# EAGLE library part AD9912 (library analog-devices)
1 GSPS Direct Digital Synthesizer with 14-Bit DAC Source: http://www.analog.com/static/imported-files/data_sheets/AD9912.pdf
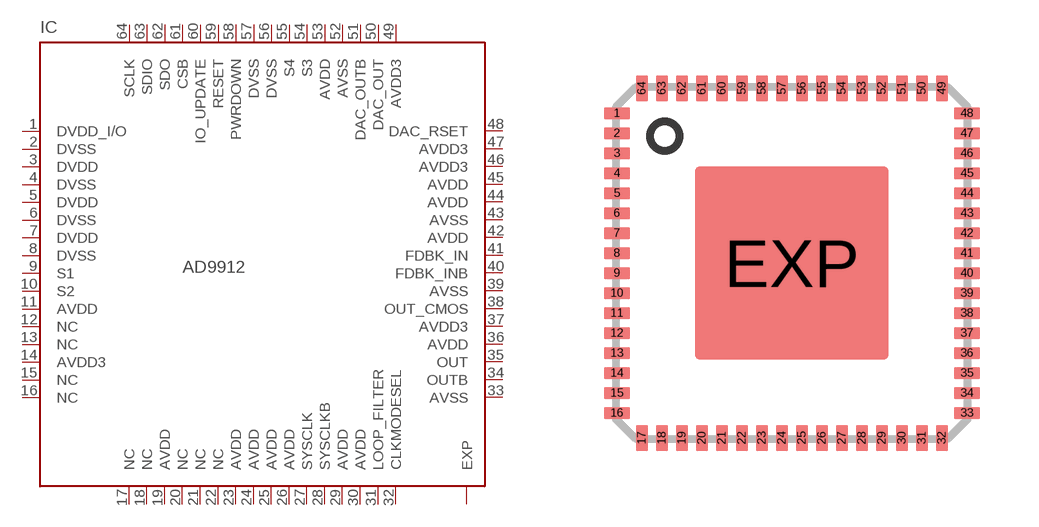
[diagram p147: symbol with the pads of LFCSP64; footprint LFCSP64]

Designator prefix IC

## AD9912 (MPN: AD9912BCPZ; OC_FARNELL: 1542712; OC_NEWARK: 61M3822)  [LFCSP64]
1  DVDD_I/O  pwr
2  DVSS  pwr
3  DVDD  pwr
4  DVSS  pwr
5  DVDD  pwr
6  DVSS  pwr
7  DVDD  pwr
8  DVSS  pwr
9  S1  in
10  S2  in
11  AVDD  pwr
12  NC  nc
13  NC  nc
14  AVDD3  pwr
15  NC  nc
16  NC  nc
17  NC  nc
18  NC  nc
19  AVDD  pwr
20  NC  nc
21  NC  nc
22  NC  nc
23  AVDD  pwr
24  AVDD  pwr
25  AVDD  pwr
26  AVDD  pwr
27  SYSCLK  in
28  SYSCLKB  in
29  AVDD  pwr
30  AVDD  pwr
31  LOOP_FILTER  in
32  CLKMODESEL  in
33  AVSS  pwr
34  OUTB  out
35  OUT  out
36  AVDD  pwr
37  AVDD3  pwr
38  OUT_CMOS  out
39  AVSS  pwr
40  FDBK_INB  in
41  FDBK_IN  in
42  AVDD  pwr
43  AVSS  pwr
44  AVDD  pwr
45  AVDD  pwr
46  AVDD3  pwr
47  AVDD3  pwr
48  DAC_RSET  in
49  AVDD3  pwr
50  DAC_OUT  out
51  DAC_OUTB  out
52  AVSS  pwr
53  AVDD  pwr
54  S3  in
55  S4  in
56  DVSS  pwr
57  DVSS  pwr
58  PWRDOWN  in
59  RESET  in
60  IO_UPDATE  in
61  CSB  in
62  SDO  in
63  SDIO  in
64  SCLK  in
EXP  EXP  pas

## Footprint LFCSP64 (pad centres in mm)
64-Lead Lead Frame Chip Scale Package [LFCSP] CP-64-1 9 x 9 mm Body Source: http://www.analog.com/UploadedFiles/Packages/40887351787287CP_64_1.pdf
smd 0.65 x 0.3: 1 -4.375,3.75; 2 -4.375,3.25; 3 -4.375,2.75; 4 -4.375,2.25; 5 -4.375,1.75; 6 -4.375,1.25; 7 -4.375,0.75; 8 -4.375,0.25; 9 -4.375,-0.25; 10 -4.375,-0.75; 11 -4.375,-1.25; 12 -4.375,-1.75; 13 -4.375,-2.25; 14 -4.375,-2.75; 15 -4.375,-3.25; 16 -4.375,-3.75; 33 4.375,-3.75; 34 4.375,-3.25; 35 4.375,-2.75; 36 4.375,-2.25; 37 4.375,-1.75; 38 4.375,-1.25; 39 4.375,-0.75; 40 4.375,-0.25; 41 4.375,0.25; 42 4.375,0.75; 43 4.375,1.25; 44 4.375,1.75; 45 4.375,2.25; 46 4.375,2.75; 47 4.375,3.25; 48 4.375,3.75
smd 0.3 x 0.65: 17 -3.75,-4.375; 18 -3.25,-4.375; 19 -2.75,-4.375; 20 -2.25,-4.375; 21 -1.75,-4.375; 22 -1.25,-4.375; 23 -0.75,-4.375; 24 -0.25,-4.375; 25 0.25,-4.375; 26 0.75,-4.375; 27 1.25,-4.375; 28 1.75,-4.375; 29 2.25,-4.375; 30 2.75,-4.375; 31 3.25,-4.375; 32 3.75,-4.375; 49 3.75,4.375; 50 3.25,4.375; 51 2.75,4.375; 52 2.25,4.375; 53 1.75,4.375; 54 1.25,4.375; 55 0.75,4.375; 56 0.25,4.375; 57 -0.25,4.375; 58 -0.75,4.375; 59 -1.25,4.375; 60 -1.75,4.375; 61 -2.25,4.375; 62 -2.75,4.375; 63 -3.25,4.375; 64 -3.75,4.375
smd 4.85 x 4.85: EXP 0,0